# EAGLE library part LED_7SEG (library akita)
7segment LED
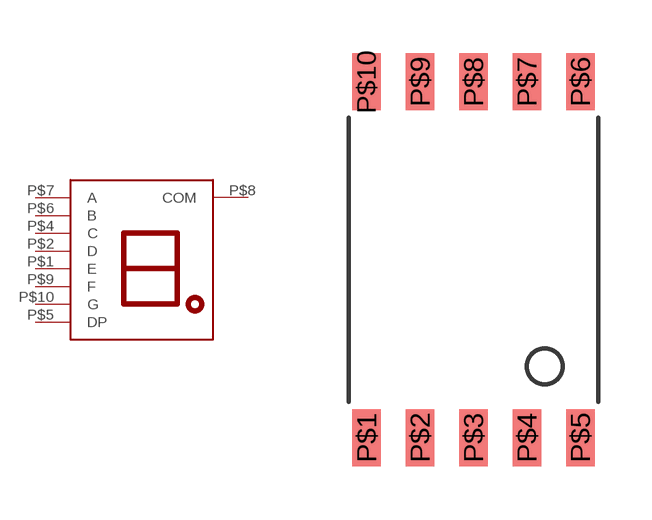
[diagram p200: symbol with the pads of 7SEG_10X7SMD; footprint 7SEG_10X7SMD]

Designator prefix D

## LED_7SEG  [7SEG_10X7SMD]
P$1  E
P$2  D
P$4  C
P$5  DP
P$6  B
P$7  A
P$8  COM
P$9  F
P$10  G

## Footprint 7SEG_10X7SMD (pad centres in mm)
7segment LED, 10x7mm, SMD
smd 0.8 x 1.6: P$1 -3,-5; P$2 -1.5,-5; P$3 0,-5; P$4 1.5,-5; P$5 3,-5; P$6 3,5; P$7 1.5,5; P$8 0,5; P$9 -1.5,5; P$10 -3,5